# EAGLE library part ZM1336 (library joep-custom)
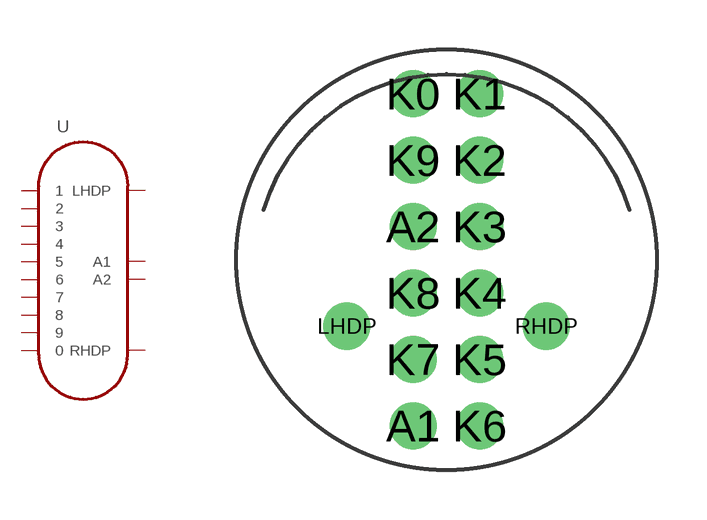
[diagram p3: symbol with the pads of ZM1336; footprint ZM1336]

Designator prefix -

## ZM1336  [ZM1336]
A1  A1
A2  A2
K0  0
K1  1
K2  2
K3  3
K4  4
K5  5
K6  6
K7  7
K8  8
K9  9
LHDP  LHDP
RHDP  RHDP

## Footprint ZM1336 (pad centres in mm)
drill 0.8 pad 1.422 round: A1 0,-4; A2 0,2; K0 0,6; K1 2,6; K2 2,4; K3 2,2; K4 2,0; K5 2,-2; K6 2,-4; K7 0,-2; K8 0,0; K9 0,4; LHDP -2,-1; RHDP 4,-1